# EAGLE library part RFM23 (library components)
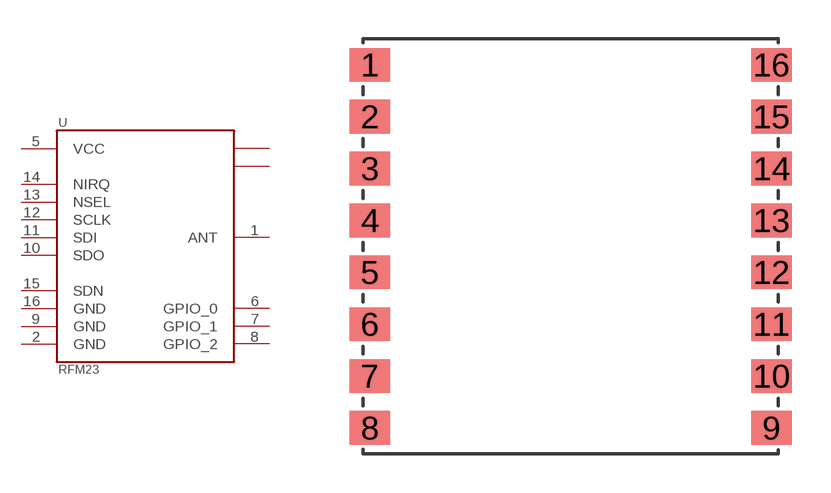
[diagram p3: symbol with the pads of RFM23-XXX-S2; footprint RFM23-XXX-S2]

Designator prefix -

## RFM23  [RFM23-XXX-S2]
1  ANT
2  GND  pwr
3  NC$1  pas
4  NC$2  pas
5  VCC
6  GPIO_0
7  GPIO_1
8  GPIO_2
9  GND  pwr
10  SDO  out
11  SDI  in
12  SCLK  in
13  NSEL  in
14  NIRQ  out
15  SDN  in
16  GND  pwr

## Footprint RFM23-XXX-S2 (pad centres in mm)
smd 1.554 x 1.3: 1 -7.738,7; 2 -7.738,5; 3 -7.738,3; 4 -7.738,1; 5 -7.738,-1; 6 -7.738,-3; 7 -7.738,-5; 8 -7.738,-7; 9 7.738,-7; 10 7.738,-5; 11 7.738,-3; 12 7.738,-1; 13 7.738,1; 14 7.738,3; 15 7.738,5; 16 7.738,7